# EAGLE library part ODU-06 (library pel_odu)
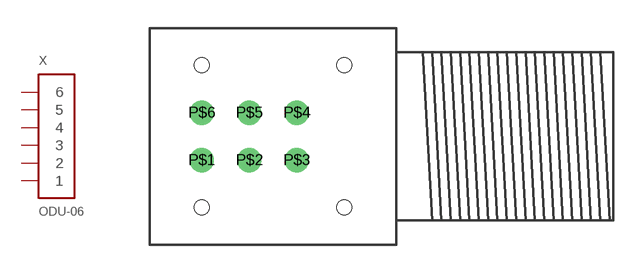
[diagram p0: symbol with the pads of ODU_MINI_SNAP_S0_WT06; footprint ODU_MINI_SNAP_S0_WT06]

Designator prefix X

## ODU-06-S0WT  [ODU_MINI_SNAP_S0_WT06]
P$1  1
P$2  2
P$3  3
P$4  4
P$5  5
P$6  6

## Footprint ODU_MINI_SNAP_S0_WT06 (pad centres in mm)
drill 0.8: P$1 -3.81,-1.27; P$2 -1.27,-1.27; P$3 1.27,-1.27; P$4 1.27,1.27; P$5 -1.27,1.27; P$6 -3.81,1.27
hole 0.8 at -3.81,3.81
hole 0.8 at 3.81,3.81
hole 0.8 at 3.81,-3.81
hole 0.8 at -3.81,-3.81